# EAGLE library part MAX480 (library opamps)
MAX480: Precision low-voltage opamp (Maxim) ±15V, 3nA bias 70µV offset, 20kHz UGF, 40nV/rt(Hz) noise
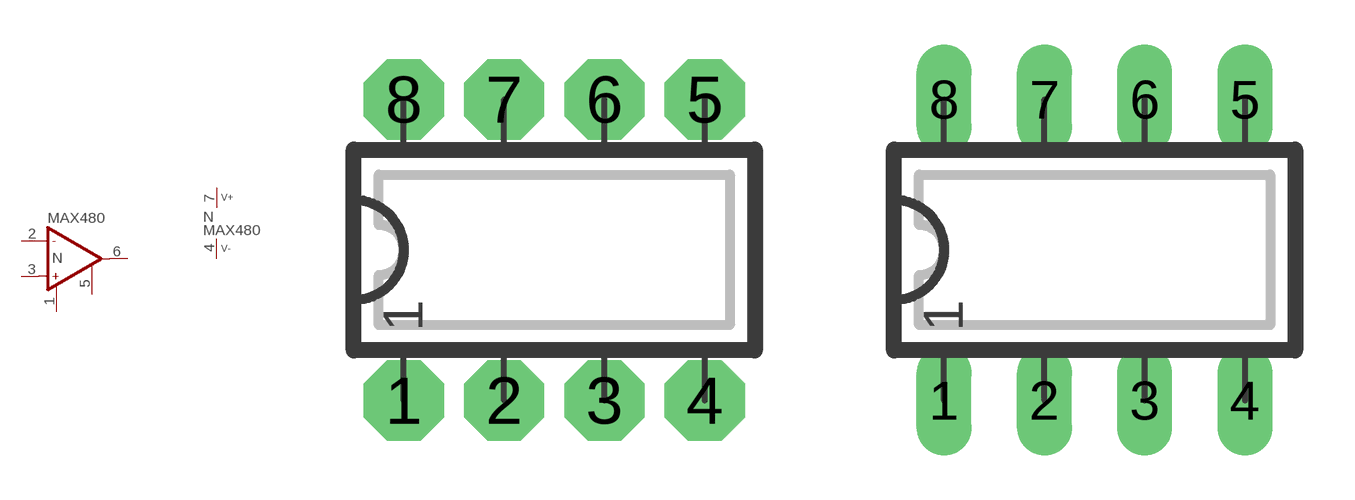
[diagram p27: symbol with the pads of DIP08N; footprints DIP08N, DIP08L]

Designator prefix N; gates A=OP_C P=V+-

## MAX480N  [DIP08N]
1  A:OPC1
2  A:IN-  in
3  A:IN+  in
4  P:V-  pwr
5  A:OPC2
6  A:OUT  out
7  P:V+  pwr

## MAX480  [DIP08L]
Pads as for DIP08N

## MAX480L  [DIP08L]
Pads as for DIP08N

## MAX480R  [DIP08R]
Pads as for DIP08N

## MAX480S  [SO08]
Pads as for DIP08N

## Footprint DIP08N (pad centres in mm)
DIP-8 Standard IC package, 8 pins
drill 0.813 pad 2.032 octagon: 1 -3.81,-3.81; 2 -1.27,-3.81; 3 1.27,-3.81; 4 3.81,-3.81; 5 3.81,3.81; 6 1.27,3.81; 7 -1.27,3.81; 8 -3.81,3.81

## Footprint DIP08L (pad centres in mm)
DIP-8, long pads Standard IC package, 8 pins
drill 0.813 pad 1.397 long: 1 -3.81,-3.81; 2 -1.27,-3.81; 3 1.27,-3.81; 4 3.81,-3.81; 5 3.81,3.81; 6 1.27,3.81; 7 -1.27,3.81; 8 -3.81,3.81

## Footprint DIP08R (pad centres in mm)
DIP-8, reduced pads Standard IC package, 8 pins
drill 0.813 pad 1.397 square: 1 -3.81,-3.81; 2 -1.27,-3.81; 3 1.27,-3.81; 4 3.81,-3.81; 5 3.81,3.81; 6 1.27,3.81; 7 -1.27,3.81; 8 -3.81,3.81

## Footprint SO08 (pad centres in mm)
SO-8, SMD SOIC IC package, 8 pins
smd 0.635 x 1.778: 1 -1.905,-2.857; 2 -0.635,-2.857; 3 0.635,-2.857; 4 1.905,-2.857; 5 1.905,2.857; 6 0.635,2.857; 7 -0.635,2.857; 8 -1.905,2.857